# EAGLE library part PRACTICE (library BattBoard)
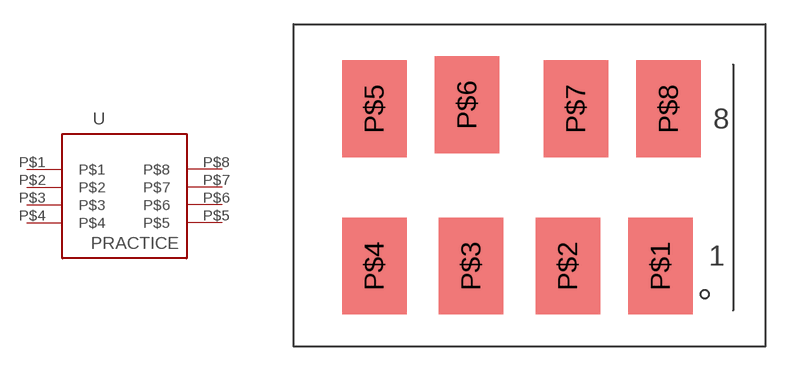
[diagram p0: symbol with the pads of PRACTICE; footprint PRACTICE]

Designator prefix -

## PRACTICE  [PRACTICE]
P$1  P$1
P$2  P$2
P$3  P$3
P$4  P$4
P$5  P$5
P$6  P$6
P$7  P$7
P$8  P$8

## Footprint PRACTICE (pad centres in mm)
smd 4 x 6: P$1 11.75,0; P$2 6,0; P$3 0,0; P$4 -6,0; P$5 -6,9.75; P$6 -0.25,10; P$7 6.5,9.75; P$8 12.25,9.75